# Altium footprint library BEADC200X125X105L50N.PcbLib: 1 footprints
Each footprint in its own frame and in the unit in brackets; x right, y up, seen from the top. Pads: shape width x height; smd on the part's side, far side on the other; paste and mask are expansions set on the pad; w line width, h text height; cw(c..) or ccw(c..) is an arc to the next point about the centre after c.
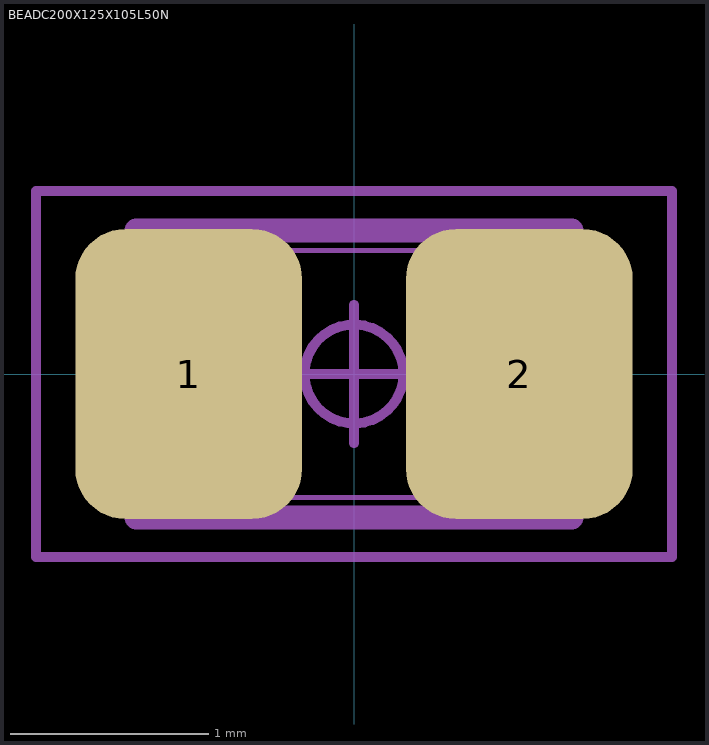
[diagram p0: the footprint, top view; thin cyan lines are the x and y axes]

## BEADC200X125X105L50N [mm] "Ferrite Bead, Chip; 2.00 mm L X 1.25 mm W X 1.05 mm H Body"
height 1.05
pads (2):
  rrect44% 1.146x1.465 smd: 1(-0.835,0) 2(0.835,0)
Mechanical 3:
  lines w0.12: -1.1,-0.725 -1.1,0.725 1.1,0.725 1.1,-0.725 -1.1,-0.725
Mechanical 5:
  lines w0.025: -1,-0.625 -0.5,-0.625 -0.5,0.625 -1,0.625 ; -1,-0.625 -1,0.625 ; -1,-0.625 -1,0.625 ; -1,-0.625 1,-0.625 ; -1,0.625 1,0.625 ; 1,-0.625 1,0.625 ; 1,-0.625 0.5,-0.625 0.5,0.625 1,0.625 ; 1,-0.625 1,0.625
Mechanical 7:
  circle w0.05: c0,0 r0.25
  lines w0.05: -0.35,0 0.35,0 ; 0,-0.35 0,0.35 ; -1.607,-0.925 -1.607,0.925 1.607,0.925 1.607,-0.925 -1.607,-0.925
Mechanical 9:
  text "'.Designator'" at -5.817,-0.271 h1.02
3D body "BEADC200X125X105L50.STEP": height 1.05, standoff 0, extent -1,-0.625 1,0.625
3D body: height 1.05, standoff 0, extent -1.607,-0.925 1.607,0.925